# EAGLE library part RP?1* (library relay)
Power PCB Relay RP II/1 SCHRACK 1 pole 16 A Source: http://www.schrack.com/.. 5834.pdf
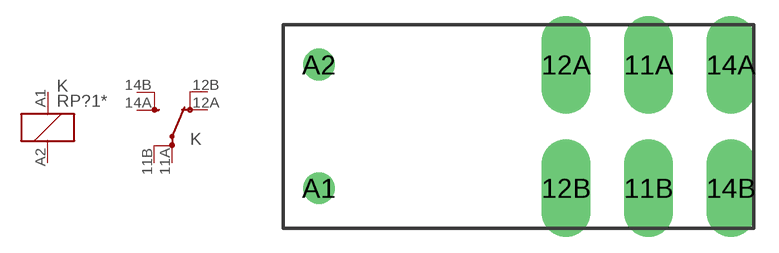
[diagram p123: symbol with the pads of RT-C/O16A5; footprint RT-C/O16A5]

Designator prefix K; gates 1=K 2=U-X2

## RP310005 (MPN: RP310005; OC_FARNELL: unknown; OC_NEWARK: 48M7769), RP310006 (MF: TYCO ELECTRONICS; MPN: RP310006; OC_FARNELL: unknown; OC_NEWARK: 08H3568), RP310012 (MF: FARNELL; MPN: RP310012.; OC_FARNELL: 388294; OC_NEWARK: 87H7751), RP310024 (MF: TYCO ELECTRONICS; MPN: RP310024; OC_FARNELL: 1838950; OC_NEWARK: 17M1783), RP310048 (MF: TYCO ELECTRONICS; MPN: RP310048; OC_FARNELL: unknown; OC_NEWARK: 08H3569), RP310060 (OC_FARNELL: unknown; OC_NEWARK: unknown), RP310110 (MF: TYCO ELECTRONICS; MPN: RP310110; OC_FARNELL: unknown; OC_NEWARK: 97C5675)  [RT-C/O16A5]
11A  2:PA  pas
11B  2:PB  pas
12A  2:OA  pas
12B  2:OB  pas
14A  2:SA  pas
14B  2:SB  pas
A1  1:1  pas
A2  1:2  pas

## RP710005 (MF: TYCO ELECTRONICS; MPN: RP710005; OC_FARNELL: unknown; OC_NEWARK: 52F964), RP710006 (MF: TYCO ELECTRONICS; MPN: RP710006; OC_FARNELL: unknown; OC_NEWARK: 08H3633), RP710012 (MF: FARNELL; MPN: RP710012; OC_FARNELL: 388312; OC_NEWARK: 50H2650), RP710024 (MF: TYCO ELECTRONICS; MPN: RP710024; OC_FARNELL: 388324; OC_NEWARK: 17M1785), RP710048 (MPN: RP710048; OC_FARNELL: unknown; OC_NEWARK: 48M7825), RP710060 (OC_FARNELL: unknown; OC_NEWARK: unknown), RP710110 (OC_FARNELL: unknown; OC_NEWARK: unknown)  [RT-C/O16A5]
Pads as for RT-C/O16A5

## Footprint RT-C/O16A5 (pad centres in mm)
Power PCB Relay 1 pole 12 / 16 A, DC- or AC-coil SCHRACK 16 A, pinning 5mm Source: http://www.schrack.com/.. 5819.pdf
drill 1.3 pad 3 long: 11A 7.56,3.78; 11B 7.56,-3.78; 12A 2.52,3.78; 12B 2.52,-3.78; 14A 12.6,3.78; 14B 12.6,-3.78
drill 1.3: A1 -12.6,-3.78; A2 -12.6,3.78